# Altium schematic symbol library 10137062-00021LF.SchLib: 1 symbol
Pins are listed as number, name and electrical type; pins without a type are passive.

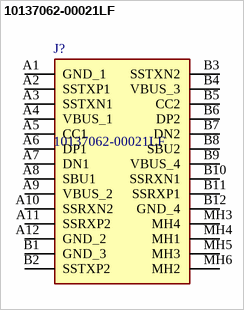
[diagram p0: symbol 10137062-00021LF]

## 10137062-00021LF
designator J?
USB-C (USB TYPE-C) USB 3.2 Gen 2 (USB 3.1 Gen 2, Superspeed + (USB 3.1)) Receptacle Connector 24 Position Surface Mount, Right Angle; Through Hole; Manufacturer_Name: Amphenol Communications Solutions; Geometry.Height: 3.5mm; Manufacturer_Part_Number: 10137062-00021LF; Mouser Part Number: *; Mouser Price/Stock: *; Arrow Part Number: 10137062-00021LF; Arrow Price/Stock: https://www.arrow.com/en/products/10137062-00021lf/amphenol-fci?utm_currency=USD&region=nac; Datasheet Link: https://cdn.amphenol-cs.com/media/wysiwyg/files/drawing/10137062.pdf
footprint 1013706200021LF
pins: A1 GND_1, A2 SSTXP1, A3 SSTXN1, A4 VBUS_1, A5 CC1, A6 DP1, A7 DN1, A8 SBU1, A9 VBUS_2, A10 SSRXN2, A11 SSRXP2, A12 GND_2, B1 GND_3, B2 SSTXP2, B3 SSTXN2, B4 VBUS_3, B5 CC2, B6 DP2, B7 DN2, B8 SBU2, B9 VBUS_4, B10 SSRXN1, B11 SSRXP1, B12 GND_4, MH3 MH4, MH4 MH1, MH5 MH3, MH6 MH2